# Altium schematic symbol library Components.SchLib: 1 symbol
Pins are listed as number, name and electrical type; pins without a type are passive.

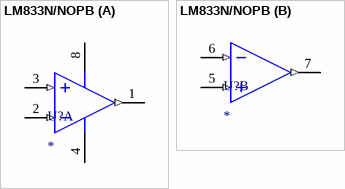
[diagram p0: symbol LM833N/NOPB]

## LM833N/NOPB
designator U?
AUDIO AMPLIFIER; Manufacturer: TI National Semiconductor; Manufacturer Part Number: LM833N/NOPB; Max Dual Supply Voltage: 18V; Voltage Gain: 110dB; Common Mode Rejection Ratio: 80dB; Number of Channels: 2; Min Dual Supply Voltage: 5V; Slew Rate: 7V/µs; Nominal Supply Current: 5mA; Unity Gain Bandwidth Product: 15MHz; Input Bias Current: 1uA; Input Offset Voltage (Vos): 5mV; Power Dissipation: 500mW; Output Current: 40mA; Load Impedance: 2kR; Dual Supply Voltage: 9V; Supplier 1: Mouser; RoHS: Yes; Category: Amplifiers - Op Amps, Buffer, Instrumentation; Stock 1: 2883; Pricing 1: 1=0.88000, 10=0.79200, 50=0.79200, 100=0.57600, 1000=0.37500, 10000=0.37500 (USD); Mount: Through Hole; Case/Package: PDIP; Number of Pins: 8; Weight: 0.01lb; Min Operating Temperature: -40°C; Max Operating Temperature: 85°C; Package Quantity: 40; Packaging: Rail/Tube; Operating Supply Voltage: 18V; Number of Circuits: 2; Gain Bandwidth Product: 15MHz; Operating Supply Current: 5mA; Number of Elements: 2; Power Supply Rejection Ratio (PSRR): 80dB; Series: -; Supply Current: 5mA; Technology: BIPOLAR; Length: 9.27mm; Width: 6.35mm; Height: 3.3mm; Radiation Hardening: No; REACH SVHC: No SVHC; Lead Free: Lead Free; RoHS Compliant: Yes; ComponentLink1URL: https://datasheet.ciiva.com/2973/lm833-n-2973456.pdf?src-supplier=Avnet; ComponentLink1Description: https://datasheet.ciiva.com/2973/lm833-n-2973456.pdf?src-supplier=Avnet; ComponentLink2URL: https://datasheet.ciiva.com/4755/lm833-n-220371-4755091.pdf?src-supplier=Mouser; ComponentLink2Description: https://datasheet.ciiva.com/4755/lm833-n-220371-4755091.pdf?src-supplier=Mouser; ComponentLink3URL: https://datasheet.ciiva.com/1482/1814449-1482436.pdf?src-supplier=Element14; ComponentLink3Description: https://datasheet.ciiva.com/1482/1814449-1482436.pdf?src-supplier=Element14; ComponentLink4URL: https://datasheet.ciiva.com/14153/mnlm833-e-14153231.pdf?src-supplier=Distrelec; ComponentLink4Description: https://datasheet.ciiva.com/14153/mnlm833-e-14153231.pdf?src-supplier=Distrelec; ComponentLink5URL: https://datasheet.ciiva.com/6630/lm833-n-6630645.pdf?src-supplier=Digi-Key; ComponentLink5Description: https://datasheet.ciiva.com/6630/lm833-n-6630645.pdf?src-supplier=Digi-Key; Supplier Part Number 1: 926-LM833N/NOPB
footprint DIP8
part A pins: 1 OS NUL (out), 2 IN- (in), 3 IN+ (in), 4 V- (power), 8 TAB (power)
part B pins: 5 OS NUL (in), 6 OUT (in), 7 V+ (out)